# EAGLE library part 74HC595 (library IntegerLabs)
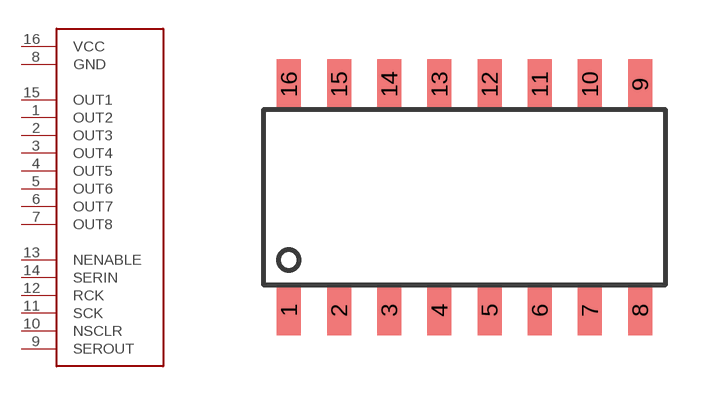
[diagram p4: symbol with the pads of SOIC-16; footprint SOIC-16]

Designator prefix -

## 74HC595  [SOIC-16]
1  OUT2
2  OUT3
3  OUT4
4  OUT5
5  OUT6
6  OUT7
7  OUT8
8  GND
9  SEROUT
10  NSCLR
11  SCK
12  RCK
13  NENABLE
14  SERIN
15  OUT1
16  VCC

## Footprint SOIC-16 (pad centres in mm)
smd 0.61 x 1.27: 1 -3.81,-3.175; 2 -2.54,-3.175; 3 -1.27,-3.175; 4 0,-3.175; 5 1.27,-3.175; 6 2.54,-3.175; 7 3.81,-3.175; 8 5.08,-3.175; 9 5.08,2.54; 10 3.81,2.54; 11 2.54,2.54; 12 1.27,2.54; 13 0,2.54; 14 -1.27,2.54; 15 -2.54,2.54; 16 -3.81,2.54